# Altium footprint library SO-8.PcbLib: 1 footprints
Each footprint in its own frame and in the unit in brackets; x right, y up, seen from the top. Pads: shape width x height; smd on the part's side, far side on the other; paste and mask are expansions set on the pad; w line width, h text height; cw(c..) or ccw(c..) is an arc to the next point about the centre after c.
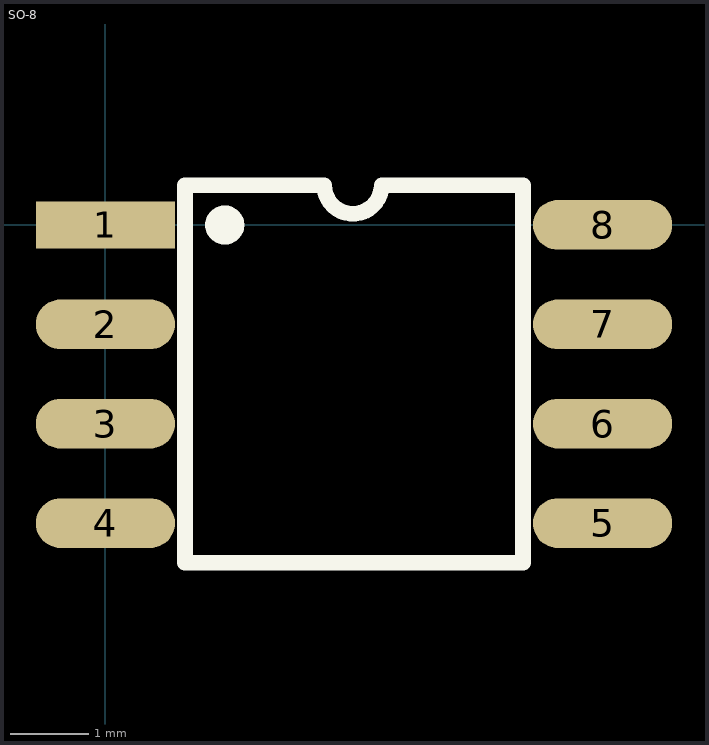
[diagram p0: the footprint, top view; thin cyan lines are the x and y axes]

## SO-8 [mil]
pads (8):
  rect 70x23.62 smd: 1(0,0)
  oval 70x25 smd: 2(0,-50) 3(0,-100) 4(0,-150) 5(250,-150) 6(250,-100) 7(250,-50) 8(250,0)
Top Overlay:
  circle w9.84: c60,-0.08 r4.92
  lines w7.87: 138.87,20 cw(c124.44,20) 110,20 40,20 40,-170 210,-170 210,20 140,20
Mechanical 15:
  text "'.Designator'" at 7.87,-94.01 h39.37
3D body "SO-8.step": height 57, standoff 0, extent 11.25,-170 238.75,23